# Altium schematic symbol library MOSFET_NPN_SOT23.SchLib: 1 symbol
Pins are listed as number, name and electrical type; pins without a type are passive.

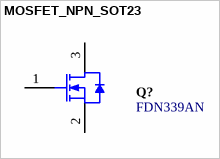
[diagram p0: symbol MOSFET_NPN_SOT23]

## MOSFET_NPN_SOT23
designator Q?, comment FDN339AN
N-Channel Specified  MOSFET; Manufacturer: Fairchild Semiconductor; Typical Turn-On Delay Time: 8ns; Transistor Configuration: Single; Maximum Drain Source Resistance: 0.035Ω; Transistor Material: Si; Minimum Gate Threshold Voltage: 0.4V; Typical Input Capacitance @ Vds: 700pF@10V; Maximum Gate Source Voltage: ±8V; Typical Gate Charge @ Vgs: 7nC@4.5V; Channel Mode: Enhancement; Channel Type: N; Maximum Continuous Drain Current: 3A; Typical Turn-Off Delay Time: 18ns; Number of Elements per Chip: 1; Maximum Drain Source Voltage: 20V; Maximum Power Dissipation: 0.5W; Length: 2.92mm; Datasheet Version: 11/1999; Datasheet URL: https://www.fairchildsemi.com/datasheets/FD/FDN339AN.pdf; Pin Count: 3; Package Reference: SOT-3; Mounting Technology: SurfaceMount; Manufacturer URL: https://www.fairchildsemi.com/; Package URL: https://www.fairchildsemi.com/package-drawings/MA/MA03B.pdf; Package Type: SOT-23; Mounting Type: SurfaceMount; Dimensions: 2.92x1.4x0.94mm; Width: 1.4mm; Maximum Operating Temperature: +150°C; Category: PowerMOSFET; Minimum Operating Temperature: -55°C; Package Description: 3-Pin Small Outline Transistor, Body 2.92 x 1.4 mm, Pitch 0.95 mm; Height: 0.94mm
footprint MOSFET_NPN_SOT23 (SOT23, 3-Leads, Body 3.04x1.52mm, Pitch 0.95mm)
pins: 1 G, 2 S, 3 D